# Altium footprint library XC7Z020CLG400-AD9).PcbLib: 30 footprints (part 2 of 2)
Each footprint in its own frame and in the unit in brackets; x right, y up, seen from the top. Pads: shape width x height; smd on the part's side, far side on the other; paste and mask are expansions set on the pad; w line width, h text height; cw(c..) or ccw(c..) is an arc to the next point about the centre after c.
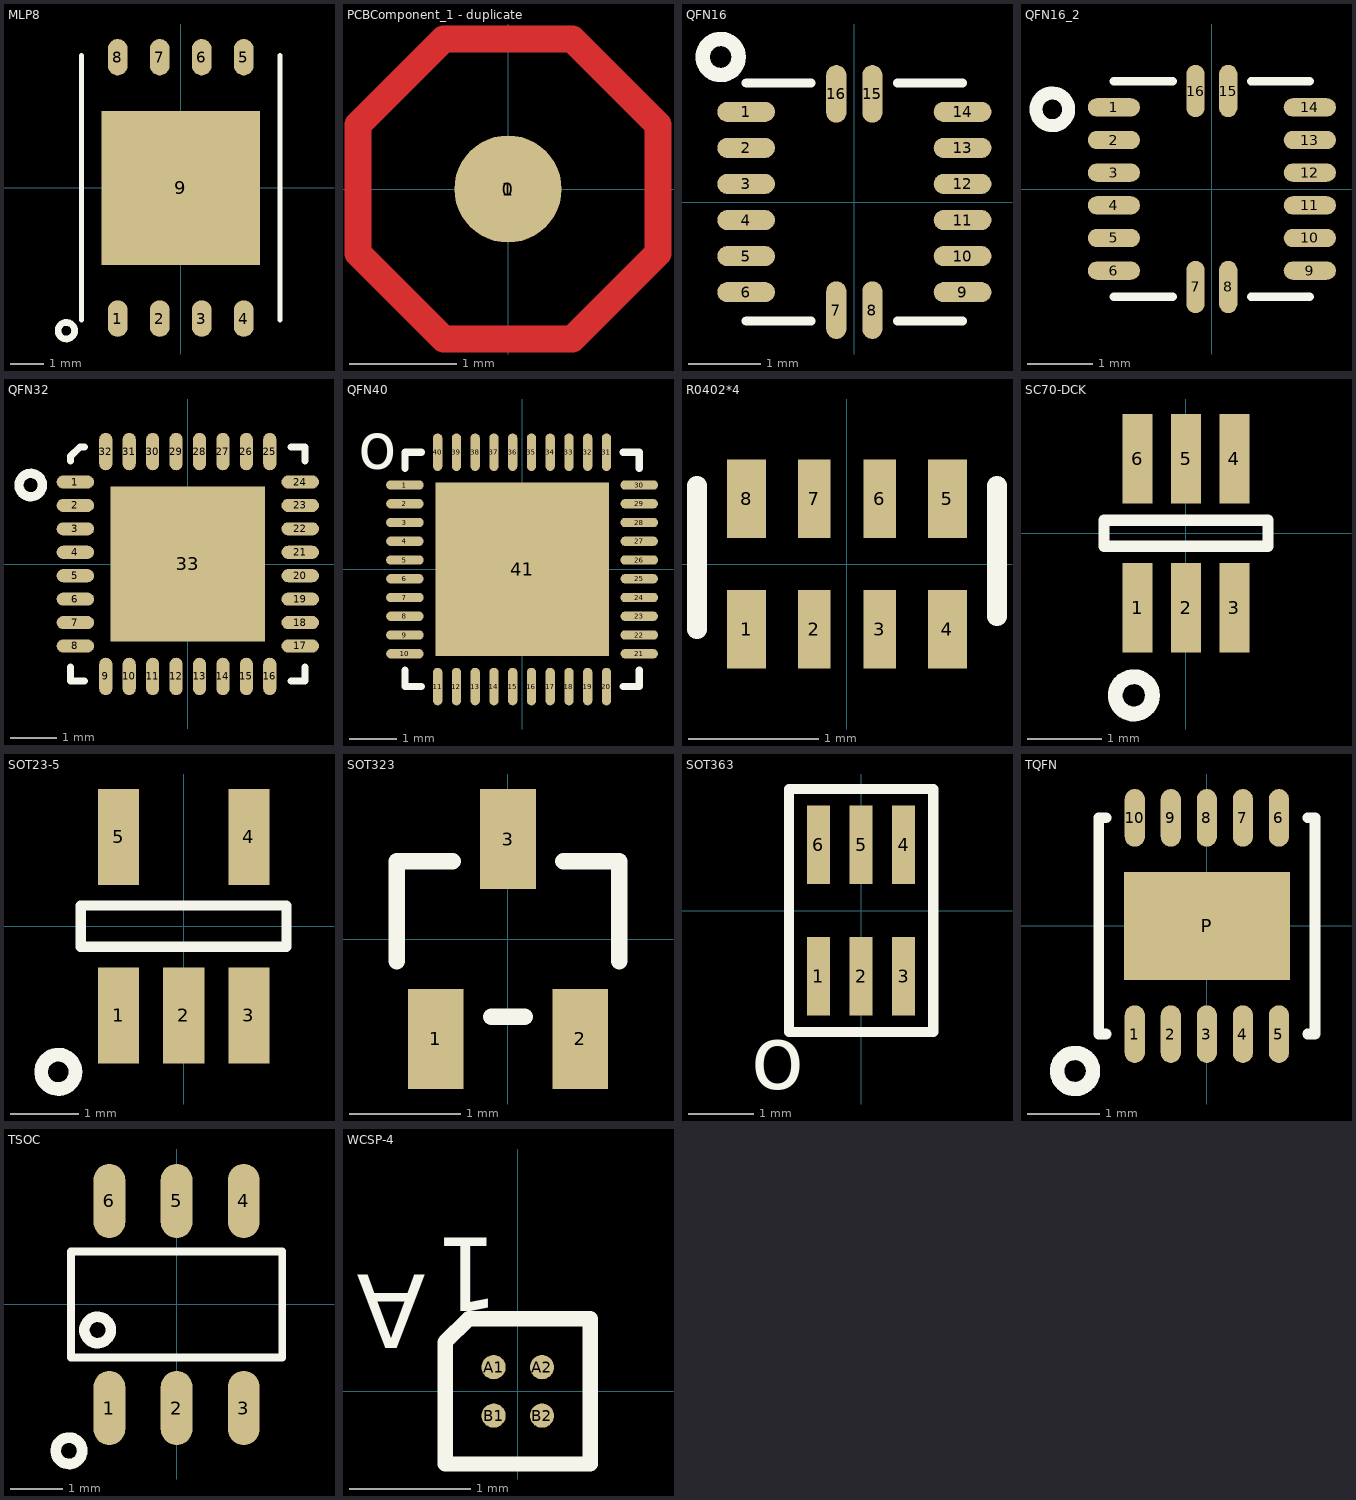
[diagram p1: the footprints below, top view; thin cyan lines are the x and y axes]

## MLP8 [mm]
height 13
pads (9):
  oval 0.6x1.1 smd: 1(-1.905,-3.95) 2(-0.635,-3.95) 3(0.635,-3.95) 4(1.905,-3.95) 5(1.905,3.95) 6(0.635,3.95) 7(-0.635,3.95) 8(-1.905,3.95)
  rect 4.8x4.65 smd: 9(0,0)
Top Overlay:
  circle w0.2: c-3.458,-4.318 r0.25
  lines w0.15: -3,-4 -3,4 ; 3,-4 3,4

## PCBComponent_1 - duplicate [mm]
pads (2):
  round 2 on Top Solder: 0(0,0)
  round 1 smd: 1(0,0)
Top Layer:
  lines w0.254: -1.4,-0.6 -1.4,0.6 -0.6,1.4 -0.4,1.4 0.4,1.4 0.6,1.4 1.4,0.6 1.4,-0.6 0.6,-1.4 -0.6,-1.4 -1.4,-0.6

## QFN16 [mm]
height 13
pads (16):
  oval 0.8x0.28 smd: 1(-1.5,1.25) 2(-1.5,0.75) 3(-1.5,0.25) 4(-1.5,-0.25) 5(-1.5,-0.75) 6(-1.5,-1.25) 9(1.5,-1.25) 10(1.5,-0.75) 11(1.5,-0.25) 12(1.5,0.25) 13(1.5,0.75) 14(1.5,1.25)
  oval 0.28x0.8 smd: 7(-0.25,-1.5) 8(0.25,-1.5) 15(0.25,1.5) 16(-0.25,1.5)
Top Overlay:
  circle w0.2: c-1.854,2.011 r0.25
  lines w0.127: -1.5,-1.65 -0.6,-1.65 ; -1.5,1.65 -0.6,1.65 ; 0.6,-1.65 1.5,-1.65 ; 0.6,1.65 1.5,1.65

## QFN16_2 [mm]
pads (16):
  oval 0.8x0.28 smd: 1(-1.5,1.25) 2(-1.5,0.75) 3(-1.5,0.25) 4(-1.5,-0.25) 5(-1.5,-0.75) 6(-1.5,-1.25) 9(1.5,-1.25) 10(1.5,-0.75) 11(1.5,-0.25) 12(1.5,0.25) 13(1.5,0.75) 14(1.5,1.25)
  oval 0.28x0.8 smd: 7(-0.25,-1.5) 8(0.25,-1.5) 15(0.25,1.5) 16(-0.25,1.5)
Top Overlay:
  circle w0.2: c-2.442,1.219 r0.25
  lines w0.127: -1.5,-1.65 -0.6,-1.65 ; -1.5,1.65 -0.6,1.65 ; 0.6,-1.65 1.5,-1.65 ; 0.6,1.65 1.5,1.65

## QFN32 [mm]
height 13
pads (33):
  oval 0.8x0.28 smd: 1(-2.4,1.75) 2(-2.4,1.25) 3(-2.4,0.75) 4(-2.4,0.25) 5(-2.4,-0.25) 6(-2.4,-0.75) 7(-2.4,-1.25) 8(-2.4,-1.75) 17(2.4,-1.75) 18(2.4,-1.25) 19(2.4,-0.75) 20(2.4,-0.25) 21(2.4,0.25) 22(2.4,0.75) 23(2.4,1.25) 24(2.4,1.75)
  oval 0.28x0.8 smd: 9(-1.75,-2.4) 10(-1.25,-2.4) 11(-0.75,-2.4) 12(-0.25,-2.4) 13(0.25,-2.4) 14(0.75,-2.4) 15(1.25,-2.4) 16(1.75,-2.4) 25(1.75,2.4) 26(1.25,2.4) 27(0.75,2.4) 28(0.25,2.4) 29(-0.25,2.4) 30(-0.75,2.4) 31(-1.25,2.4) 32(-1.75,2.4)
  rect 3.3x3.3 smd: 33(0,0)
Top Overlay:
  circle w0.2: c-3.353,1.685 r0.25
  lines w0.15: -2.5,-2.2 -2.5,-2.5 -2.2,-2.5 ; -2.5,2.2 -2.5,2.3 -2.3,2.5 -2.2,2.5 ; 2.2,-2.5 2.5,-2.5 2.5,-2.2 ; 2.2,2.5 2.5,2.5 2.5,2.2

## QFN40 [mm]
pads (41):
  oval 0.8x0.2 smd: 1(-2.5,1.8) 2(-2.5,1.4) 3(-2.5,1) 4(-2.5,0.6) 5(-2.5,0.2) 6(-2.5,-0.2) 7(-2.5,-0.6) 8(-2.5,-1) 9(-2.5,-1.4) 10(-2.5,-1.8) 21(2.5,-1.8) 22(2.5,-1.4) 23(2.5,-1) 24(2.5,-0.6) 25(2.5,-0.2) 26(2.5,0.2) 27(2.5,0.6) 28(2.5,1) 29(2.5,1.4) 30(2.5,1.8)
  oval 0.2x0.8 smd: 11(-1.8,-2.5) 12(-1.4,-2.5) 13(-1,-2.5) 14(-0.6,-2.5) 15(-0.2,-2.5) 16(0.2,-2.5) 17(0.6,-2.5) 18(1,-2.5) 19(1.4,-2.5) 20(1.8,-2.5) 31(1.8,2.5) 32(1.4,2.5) 33(1,2.5) 34(0.6,2.5) 35(0.2,2.5) 36(-0.2,2.5) 37(-0.6,2.5) 38(-1,2.5) 39(-1.4,2.5) 40(-1.8,2.5)
  rect 3.7x3.7 smd: 41(0,0)
Top Overlay:
  lines w0.152: -2.5,-2.15 -2.5,-2.5 -2.15,-2.5 ; -2.5,2.15 -2.5,2.5 -2.15,2.5 ; 2.15,-2.5 2.5,-2.5 2.5,-2.15 ; 2.15,2.5 2.5,2.5 2.5,2.15
  text "o" at -3.5,2.15 h0.98

## R0402*4 [mm]
pads (8):
  rect 0.3x0.6 smd: 1(-0.77,-0.5) 4(0.77,-0.5) 5(0.77,0.5) 8(-0.77,0.5)
  rect 0.25x0.6 smd: 2(-0.25,-0.5) 3(0.25,-0.5) 6(0.25,0.5) 7(-0.25,0.5)
Top Overlay:
  lines w0.15: -1.15,-0.5 -1.15,0.6 ; 1.15,-0.4 1.15,0.6

## SC70-DCK [mm]
height 0.9
pads (6):
  rect 0.4x1.2 smd: 1(-0.65,-1) 2(0,-1) 3(0.65,-1) 4(0.65,1) 5(0,1) 6(-0.65,1)
Top Overlay:
  circle w0.2: c-0.7,-2.175 r0.25
  lines w0.15: -1.1,-0.175 -1.1,0.175 1.1,0.175 1.1,-0.175 -1.1,-0.175

## SOT23-5 [mm]
height 13
pads (5):
  rect 0.6x1.4 smd: 1(-0.95,-1.3) 2(0,-1.3) 3(0.95,-1.3) 4(0.95,1.3) 5(-0.95,1.3)
Top Overlay:
  circle w0.2: c-1.829,-2.125 r0.25
  lines w0.15: -1.5,-0.3 1.5,-0.3 1.5,0.3 -1.5,0.3 -1.5,-0.3

## SOT323 [mm]
height 0.9
pads (3):
  rect 0.5x0.9 smd: 1(-0.65,-0.9) 2(0.65,-0.9) 3(0,0.9)
Top Overlay:
  lines w0.15: -1,-0.2 -1,0.7 -0.5,0.7 ; -0.15,-0.7 0.15,-0.7 ; 0.5,0.7 1,0.7 1,-0.2

## SOT363 [mm]
pads (6):
  rect 0.35x1.2 smd: 1(-0.65,-1) 2(0,-1) 3(0.65,-1) 4(0.65,1) 5(0,1) 6(-0.65,1)
Top Overlay:
  lines w0.152: -1.1,-1.85 -1.1,1.85 1.1,1.85 1.1,-1.85 -1.1,-1.85
  text "o" at -1.676,-2.718 h0.98

## TQFN [mm]
height 13
pads (11):
  oval 0.28x0.8 smd: 1(-1,-1.5) 2(-0.5,-1.5) 3(0,-1.5) 4(0.5,-1.5) 5(1,-1.5) 6(1,1.5) 7(0.5,1.5) 8(0,1.5) 9(-0.5,1.5) 10(-1,1.5)
  rect 2.3x1.5 smd: P(0,0)
Top Overlay:
  circle w0.2: c-1.829,-2.011 r0.25
  lines w0.15: -1.4,-1.5 -1.5,-1.5 -1.5,1.5 -1.4,1.5 ; 1.4,-1.5 1.5,-1.5 1.5,1.5 1.4,1.5

## TSOC [mm]
height 13
pads (6):
  oval 0.6x1.4 smd: 1(-1.27,-1.959) 2(0,-1.959) 3(1.27,-1.959) 4(1.27,1.959) 5(0,1.959) 6(-1.27,1.959)
Top Overlay:
  circle w0.2: c-2.036,-2.769 r0.25
  circle w0.2: c-1.495,-0.483 r0.25
  lines w0.15: -2,-1 2,-1 2,1 -2,1 -2,-1

## WCSP-4 [mm]
height 0.9
pads (4):
  round 0.2 smd: A1(-0.2,0.2) A2(0.2,0.2) B1(-0.2,-0.2) B2(0.2,-0.2)
Top Overlay:
  lines w0.127: -0.6,-0.6 0.6,-0.6 0.6,0.6 -0.406,0.6 -0.6,0.406 -0.6,-0.6
  text "1" at -0.152,1.27 h0.61
  text "A" at -0.762,0.965 h0.61